# Altium footprint library ChipResistors-1206-E24.PcbLib: 2 footprints
Each footprint in its own frame and in the unit in brackets; x right, y up, seen from the top. Pads: shape width x height; smd on the part's side, far side on the other; paste and mask are expansions set on the pad; w line width, h text height; cw(c..) or ccw(c..) is an arc to the next point about the centre after c.
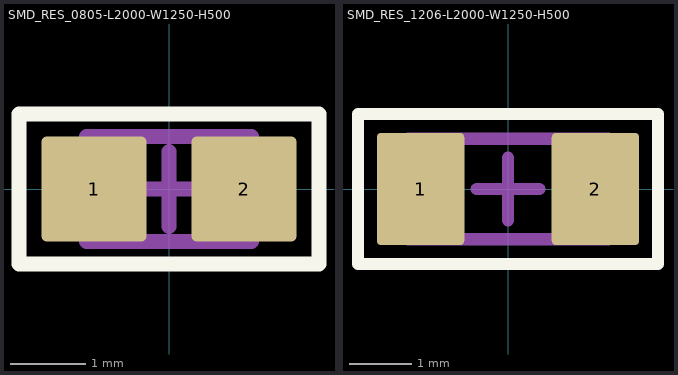
[diagram p0: the footprints below, top view; thin cyan lines are the x and y axes]

## SMD_RES_0805-L2000-W1250-H500 [mm] "Chip Resistor, 2-Leads, Body 2.000x1.250x0.500mm, IPC Medium Density"
height 0.5
pads (2):
  rrect10% 1.4x1.4 smd: 1(-1,0) 2(1,0)
Top Overlay:
  lines w0.2: -2,-1 -2,1 2,1 2,-1 -2,-1
Top Courtyard:
  lines w0.1: -2,-1 2,-1 2,1 -2,1 -2,-1
  lines w0.2: -0.5,0 0.5,0 ; 0,-0.5 0,0.5
Top Assembly:
  lines w0.2: -1.1,-0.7 -1.1,0.7 1.1,0.7 1.1,-0.7 -1.1,-0.7
3D body "CR0805-Empty.STEP": height 0.5, standoff 0, extent -1,-0.625 1,0.625

## SMD_RES_1206-L2000-W1250-H500 [mm] "Chip Resistor, 2-Leads, Body 3,15x1,60mm, IPC Medium Density"
height 0.6
pads (2):
  rrect10% 1.4x1.8 smd: 1(-1.4,0) 2(1.4,0)
Top Overlay:
  lines w0.2: -2.4,-1.2 2.4,-1.2 2.4,1.2 -2.4,1.2 -2.4,-1.2
Top Courtyard:
  lines w0.1: -2.4,-1.2 2.4,-1.2 2.4,1.2 -2.4,1.2 -2.4,-1.2
  lines w0.2: -0.5,0 0.5,0 ; 0,-0.5 0,0.5
Top Assembly:
  lines w0.2: -1.6,-0.8 1.6,-0.8 1.6,0.8 -1.6,0.8 -1.6,-0.8
3D body "CR1206-Body.STEP": height 0.5, standoff 0, extent -1.6,-0.8 1.6,0.8